# EAGLE library part LM317LSO (library ic)
LM317L: Fixed positive voltage regulator in SO-8 SMD package LM317L: Adjustable voltage regulator 1.2-37V, 100mA, SO-8 SMD package
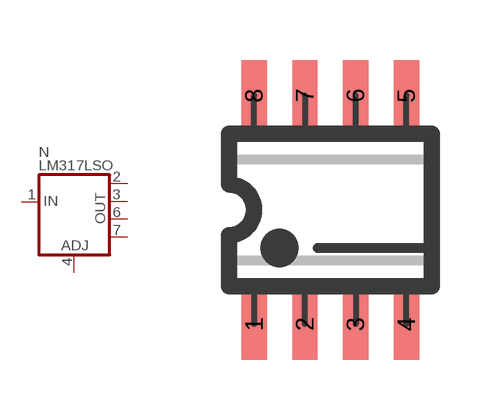
[diagram p136: symbol with the pads of SO08; footprint SO08]

Designator prefix N

## LM317LSO  [SO08]
1  IN  pwr
2  OUT  pwr
3  OUT  pwr
4  ADJ  pwr
6  OUT  pwr
7  OUT  pwr

## Footprint SO08 (pad centres in mm)
SO-8, SMD SOIC IC package, 8 pins
smd 0.635 x 1.778: 1 -1.905,-2.857; 2 -0.635,-2.857; 3 0.635,-2.857; 4 1.905,-2.857; 5 1.905,2.857; 6 0.635,2.857; 7 -0.635,2.857; 8 -1.905,2.857